# EAGLE library part EPC2065 (library EPCGaNFET)
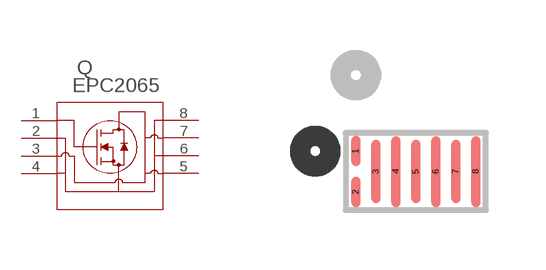
[diagram p0: symbol with the pads of EPC2065_ECC; footprint EPC2065_ECC]

Designator prefix Q

## EPC2065 (COPYRIGHT: Copyright (C) 2023 Ultra Librarian. All rights reserved.; DIGIKEY_PART_NUMBER_1: 917-EPC2065TR-ND; DIGIKEY_PART_NUMBER_2: 917-EPC2065CT-ND; DIGIKEY_PART_NUMBER_3: 917-EPC2065DKR-ND; MANUFACTURER_PART_NUMBER: EPC2065; MFR_NAME: EPC)  [EPC2065_ECC]
1  1  pas
2  2  pas
3  3  pas
4  4  pas
5  5  pas
6  6  pas
7  7  pas
8  8  pas

## Footprint EPC2065_ECC (pad centres in mm)
smd 0.229 x 0.762: 1 -1.5,0.512; 2 -1.5,-0.512
smd 0.229 x 1.6: 3 -1,0; 5 0,0; 7 1,0
smd 0.229 x 1.778: 4 -0.5,0; 6 0.5,0; 8 1.5,0